# Altium footprint library 标记与标识.PcbLib: 2 footprints
Each footprint in its own frame and in the unit in brackets; x right, y up, seen from the top. Pads: shape width x height; smd on the part's side, far side on the other; paste and mask are expansions set on the pad; w line width, h text height; cw(c..) or ccw(c..) is an arc to the next point about the centre after c.
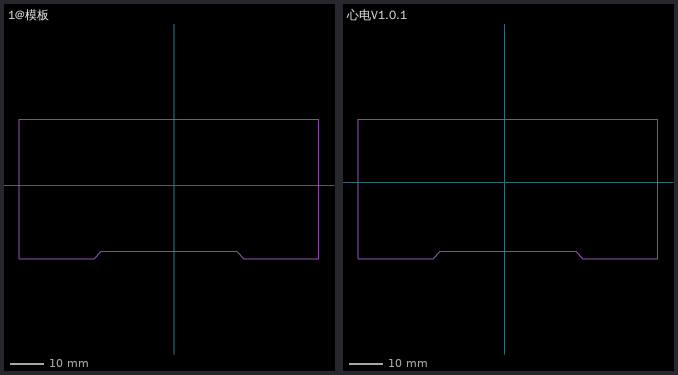
[diagram p0: the footprints below, top view; thin cyan lines are the x and y axes]

## 1@模板 [mm]
Mechanical 1:
  lines w0.1: -46.101,-21.844 -23.812,-21.844 -21.653,-19.685 18.605,-19.685 20.764,-21.844 43.053,-21.844 43.053,19.558 -46.101,19.558 -46.101,-21.844
  text "DESIGN : George" at -36.195,-14.859 h1.02
  text "CU : 1 OZ" at -36.195,-12.09 h1.02
  text "COLOR : BLUE" at -36.195,-8.983 h1.02
  text "STYLE : FR4" at -36.195,-5.876 h1.02
  text "LAYER : 2" at -36.195,-2.769 h1.02
  text "NAME :" at -36.195,0.339 h1.02
  text "H : mm" at -36.195,3.446 h1.02
  text "L*W : mm*mm" at -36.195,6.553 h1.02
  text "DATE :" at -36.195,9.66 h1.02
  text "VER : V" at -36.195,12.768 h1.02
  text "EDA : AD15" at -36.195,15.875 h1.02

## 心电V1.0.1 [mm]
Mechanical 1:
  lines w0.1: -43.561,-22.733 -21.273,-22.733 -19.113,-20.574 21.145,-20.574 23.304,-22.733 45.593,-22.733 45.593,18.669 -43.561,18.669 -43.561,-22.733
  text "DESIGN : George" at -33.655,-15.748 h1.02
  text "CU : 1 OZ" at -33.655,-12.979 h1.02
  text "COLOR : BLUE" at -33.655,-9.872 h1.02
  text "STYLE : FR4" at -33.655,-6.765 h1.02
  text "LAYER : 2" at -33.655,-3.658 h1.02
  text "NAME : ECGBoard" at -33.655,-0.55 h1.02
  text "H : 5.3mm" at -33.655,2.557 h1.02
  text "L*W : 150mm*90mm" at -33.655,5.664 h1.02
  text "DATE : 2019/5/29" at -33.655,8.771 h1.02
  text "VER : V1.0.1" at -33.655,11.879 h1.02
  text "EDA : AD15" at -33.655,14.986 h1.02